# Altium schematic symbol library DS-1013-08.Schlib: 1 symbol
Pins are listed as number, name and electrical type; pins without a type are passive.

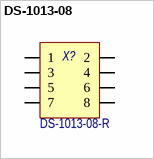
[diagram p0: symbol DS-1013-08]

## DS-1013-08
designator X?, comment DS-1013-08-R
Вилка 2,54мм 2x8, на плату; Назначение: Вилка 2,54мм 2x8, на плату, угловая; Наименование: DS-1013-08-R
footprint DS-1013-08-R (2.54mm Box Header R/A)
pins: 1, 2, 3, 4, 5, 6, 7, 8